# EAGLE library part LM1881 (library ic)
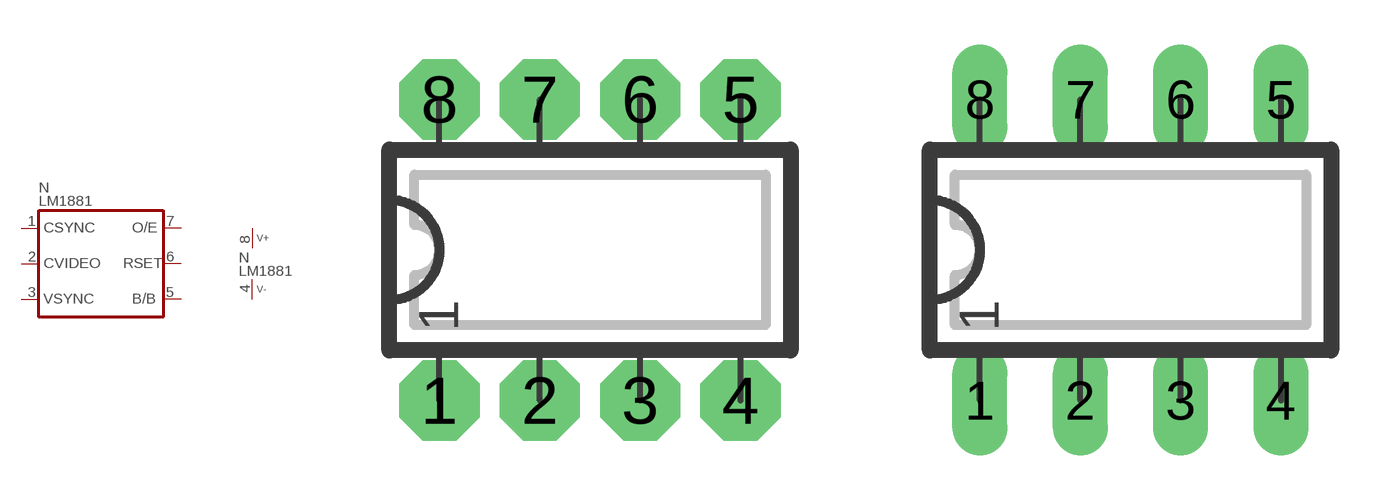
[diagram p27: symbol with the pads of DIP08N; footprints DIP08N, DIP08L]

Designator prefix N; gates  =LM1881 P=V+-

## LM1881N  [DIP08N]
1   :CSYNC  in
2   :CVIDEO  in
3   :VSYNC  in
4  P:V-  pwr
5   :B/B  out
6   :RSET  out
7   :O/E  out
8  P:V+  pwr

## LM1881  [DIP08L]
Pads as for DIP08N

## LM1881L  [DIP08L]
Pads as for DIP08N

## LM1881R  [DIP08R]
Pads as for DIP08N

## Footprint DIP08N (pad centres in mm)
DIP-8 Standard IC package, 8 pins
drill 0.813 pad 2.032 octagon: 1 -3.81,-3.81; 2 -1.27,-3.81; 3 1.27,-3.81; 4 3.81,-3.81; 5 3.81,3.81; 6 1.27,3.81; 7 -1.27,3.81; 8 -3.81,3.81

## Footprint DIP08L (pad centres in mm)
DIP-8, long pads Standard IC package, 8 pins
drill 0.813 pad 1.397 long: 1 -3.81,-3.81; 2 -1.27,-3.81; 3 1.27,-3.81; 4 3.81,-3.81; 5 3.81,3.81; 6 1.27,3.81; 7 -1.27,3.81; 8 -3.81,3.81

## Footprint DIP08R (pad centres in mm)
DIP-8, reduced pads Standard IC package, 8 pins
drill 0.813 pad 1.397 square: 1 -3.81,-3.81; 2 -1.27,-3.81; 3 1.27,-3.81; 4 3.81,-3.81; 5 3.81,3.81; 6 1.27,3.81; 7 -1.27,3.81; 8 -3.81,3.81